# Altium integrated library WE-CMS_rev15a.intlib: 1 symbol
Pins are listed as number, name and electrical type; pins without a type are passive.

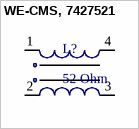
[diagram p0: symbol WE-CMS, 7427521]

## WE-CMS, 7427521
designator L?, comment 52 Ohm
Common Mode SMD Beads WE-CMS, Z= 52 Ohm; partNo: 7427521; Manufacturer: W黵th Elektronik eiSos GmbH; Impedance: 52 Ohm; ComponentLink1Description: Manufacturer; ComponentLink1URL: http://www.we-online.de; Created by: Christin Zierenner; Created Date: May 2009; ComponentLink2Description: Datasheet; ComponentLink2URL: http://www.we-online.de/katalog/media/pdf/7427521.pdf
footprint WE-CMS (Inductor, 4-Leads, Body 8,5x5,6mm)
pins: 1, 2, 3, 4